# Altium schematic symbol library SYM-IC.SchLib: 136 symbols (part 3 of 7)
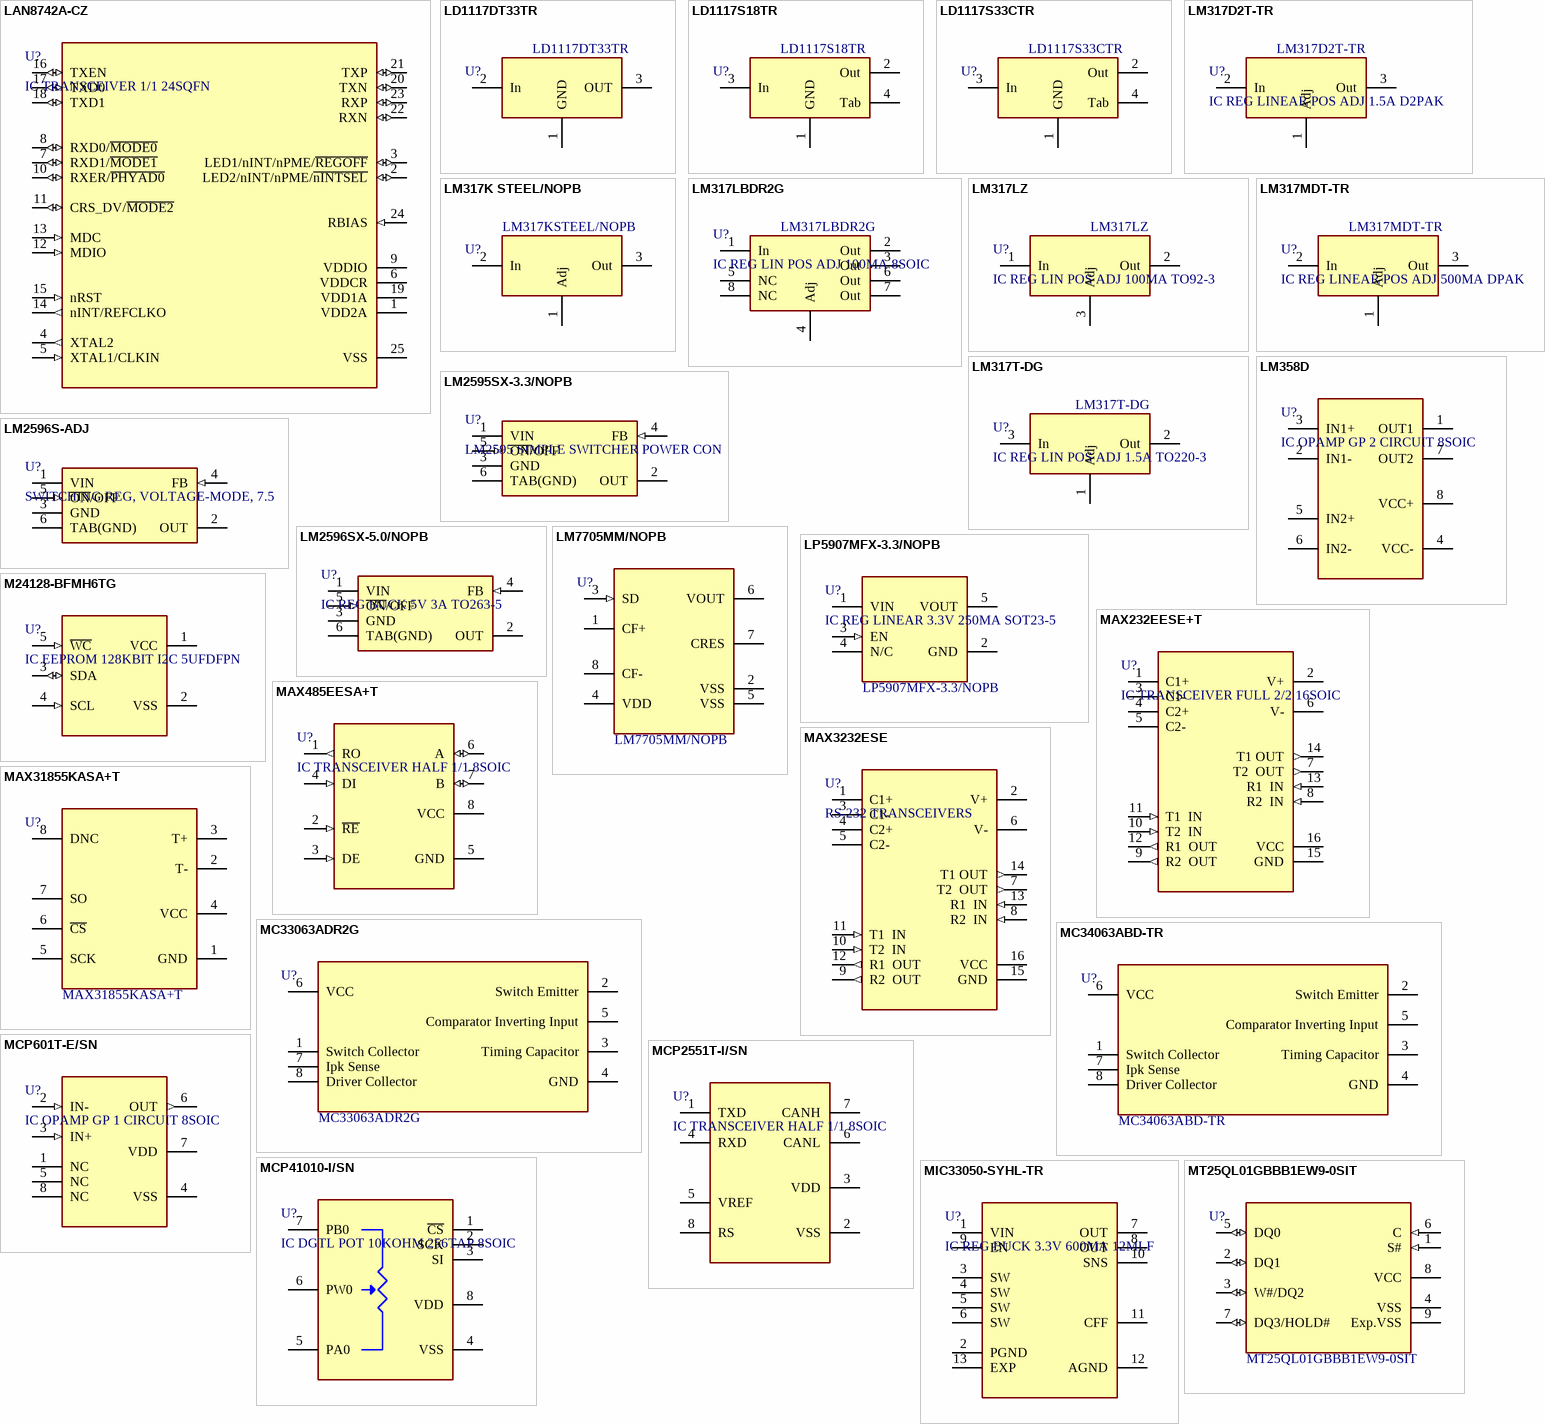
[diagram p19: symbols LAN8742A-CZ to MT25QL01GBBB1EW9-0SIT]

## LM317LBDR2G
designator U?, comment IC REG LIN POS ADJ 100MA 8SOIC  Manufacturer Part Number: LM317LBDR2G
Linear Voltage Regulator IC Positive Adjustable 1 Output 1.2 V ~ 37 V 100mA 8-SOIC; Manufacturer: ON Semiconductor; Number of Outputs: 1; Output Voltage: 37V; Max Input Voltage: 40V; Min Input Voltage: 1.3V; Min Output Voltage: 1.2V; Output Voltage Accuracy: 4%; Power Supply Rejection Ratio (PSRR): 80dB; Quiescent Current: 10mA; Supplier 1: Digi-Key; RoHS: Yes; Category: Voltage Regulators - Linear; Mount: Surface Mount; Case/Package: SOIC; Number of Pins: 8; Contact Plating: Tin,Matte; Min Operating Temperature: -40°C; Max Operating Temperature: 125°C; Packaging: Tape and Reel; Output Current: 100mA; Package Quantity: 2500; Max Output Current: 100mA; Polarity: Positive; Number of Regulators: 1; Reference Voltage: 1.3V; Max Output Voltage: 37V; Accuracy: 4%; Output Type: Adjustable; Series: -; Output Configuration: Positive; Length: 5mm; Width: 4mm; Height: 1.5mm; Radiation Hardening: No; Reach SVHC Compliant: Yes; Lead Free: Lead Free; Halogen Free: Halogen Free; RoHS Compliant: Yes; ComponentLink1URL: https://datasheet.ciiva.com/16982/0900766b80dbcdd9-16982166.pdf?src-supplier=Allied+Electronics; ComponentLink1Description: https://datasheet.ciiva.com/16982/0900766b80dbcdd9-16982166.pdf?src-supplier=Allied+Electronics; ComponentLink2URL: https://datasheet.ciiva.com/3223/lm317l-d-3223679.pdf?src-supplier=Avnet; ComponentLink2Description: https://datasheet.ciiva.com/3223/lm317l-d-3223679.pdf?src-supplier=Avnet; ComponentLink3URL: https://datasheet.ciiva.com/16213/lm317l-d-16213927.pdf?src-supplier=Future+Electronics; ComponentLink3Description: https://datasheet.ciiva.com/16213/lm317l-d-16213927.pdf?src-supplier=Future+Electronics; ComponentLink4URL: https://datasheet.ciiva.com/3225/lm317l-d-3225357.pdf?src-supplier=Avnet; ComponentLink4Description: https://datasheet.ciiva.com/3225/lm317l-d-3225357.pdf?src-supplier=Avnet; ComponentLink5URL: https://datasheet.ciiva.com/2059/lm317l-d-2059945.pdf?src-supplier=Digi-Key; ComponentLink5Description: https://datasheet.ciiva.com/2059/lm317l-d-2059945.pdf?src-supplier=Digi-Key; ComponentLink6URL: https://datasheet.ciiva.com/2059/lm317l-d-2059946.pdf?src-supplier=Digi-Key; ComponentLink6Description: https://datasheet.ciiva.com/2059/lm317l-d-2059946.pdf?src-supplier=Digi-Key; ComponentLink7URL: https://datasheet.ciiva.com/2059/lm317l-d-2059944.pdf?src-supplier=Digi-Key; ComponentLink7Description: https://datasheet.ciiva.com/2059/lm317l-d-2059944.pdf?src-supplier=Digi-Key; Supplier Part Number 1: LM317LBDR2GOSCT-ND
footprint SOIC127P600X175-8N (SOIC, 8-Leads, Body 4/89x3/90mm, Pitch 1/27mm, IPC Medium Density)
pins: 1 In, 2 Out, 3 Out, 4 Adj, 5 NC, 6 Out, 7 Out, 8 NC

## LM317LZ
designator U?, comment IC REG LIN POS ADJ 100MA TO92-3  Manufacturer Part Number: LM317LZ
Standard Regulator Pos 1.2V to 37V 0.05A 3-Pin TO-92 Bag / IC REG LINEAR ADJ 0.1A TO92-3; Manufacturer: STMicroelectronics; Number of Outputs: 1; Max Input Voltage: 40V; Min Input Voltage: 4.2V; Polarity: Positive; Reference Voltage: 1.3V; Power Supply Rejection Ratio (PSRR): 65dB; Output Type: Adjustable; Supplier 1: Digi-Key; RoHS: Yes; Category: Voltage Regulators - Linear; Stock 1: 12547; Pricing 1: 1=0/44000, 10=0/38100, 25=0/35560, 100=0/28430, 250=0/26404, 500=0/22340, 1000=0/17263, 2500=0/16765 (USD); Mount: Through Hole; Case/Package: TO-92; Number of Pins: 3; Weight: 0.01lb; Min Operating Temperature: 0°C; Max Operating Temperature: 125°C; Package Quantity: 2500; Output Voltage: 37V; Packaging: Bag; Output Current: 100mA; Max Output Current: 100mA; Number of Regulators: 1; Min Output Voltage: 1.2V; Max Output Voltage: 37V; Output Configuration: Positive; Series: -; Length: 0.75inch; Width: 0.25inch; Height: 0.25inch; Radiation Hardening: No; Reach SVHC Compliant: Yes; Lead Free: Lead Free; RoHS Compliant: Yes; ComponentLink1URL: https://datasheet.ciiva.com/29156/155585-da-01-en-sp-regl-lm317lz-to92-stm-29156593.pdf?src-supplier=Conrad; ComponentLink1Description: https://datasheet.ciiva.com/29156/155585-da-01-en-sp-regl-lm317lz-to92-stm-29156593.pdf?src-supplier=Conrad; ComponentLink2URL: https://datasheet.ciiva.com/1512/1837096-1512036.pdf?src-supplier=Element14; ComponentLink2Description: https://datasheet.ciiva.com/1512/1837096-1512036.pdf?src-supplier=Element14; ComponentLink3URL: https://datasheet.ciiva.com/2043/cd00000469-2043611.pdf?src-supplier=Digi-Key; ComponentLink3Description: https://datasheet.ciiva.com/2043/cd00000469-2043611.pdf?src-supplier=Digi-Key; ComponentLink4URL: https://datasheet.ciiva.com/4884/cd00000469-4884669.pdf?src-supplier=Mouser; ComponentLink4Description: https://datasheet.ciiva.com/4884/cd00000469-4884669.pdf?src-supplier=Mouser; ComponentLink5URL: https://datasheet.ciiva.com/16296/cd00000469-16296878.pdf?src-supplier=Future+Electronics; ComponentLink5Description: https://datasheet.ciiva.com/16296/cd00000469-16296878.pdf?src-supplier=Future+Electronics; Supplier Part Number 1: 497-1573-5-ND
footprint TO-92W
footprint TO-92A
footprint TO-92B
pins: 1 In, 2 Out, 3 Adj

## LM317MDT-TR
designator U?, comment IC REG LINEAR POS ADJ 500MA DPAK  Manufacturer Part Number: LM317MDT-TR
Reg Standard Lin Adj Pos 1.2V to 37V 0.2A 3-Pin (2+Tab) DPAK T/R; Manufacturer: STMicroelectronics; Number of Outputs: 1; Max Input Voltage: 40V; Min Input Voltage: 4.2V; Max Output Current: 200mA; Polarity: Positive; Reference Voltage: 1.3V; Power Supply Rejection Ratio (PSRR): 65dB; Output Type: Adjustable; Supplier 1: Digi-Key; RoHS: Yes; Category: Voltage Regulators - Linear; Stock 1: 29417; Pricing 1: 1=0/93000, 10=0/83200, 25=0/79000, 100=0/64900, 250=0/60668, 500=0/53612, 1000=0/46585 (USD); Mount: Surface Mount; Case/Package: TO-252; Number of Pins: 3; Weight: 0.063493oz; Contact Plating: Tin,Matte; Min Operating Temperature: 0°C; Max Operating Temperature: 125°C; Packaging: Tape and Reel; Output Voltage: 37V; Output Current: 500mA; Package Quantity: 1; Number of Regulators: 1; Min Output Voltage: 1.2V; Max Output Voltage: 37V; Series: LM317; Output Configuration: Positive; Length: 6.6mm; Width: 6.2mm; Height: 2.4mm; Radiation Hardening: No; Reach SVHC Compliant: Yes; Lead Free: Lead Free; ComponentLink1URL: https://datasheet.ciiva.com/41440/001185006-da-01-en-ic-reg-ldo-adj-lm317mdt-tr-to-252-3-stm-41440182.pdf?src-supplier=Conrad; ComponentLink1Description: https://datasheet.ciiva.com/41440/001185006-da-01-en-ic-reg-ldo-adj-lm317mdt-tr-to-252-3-stm-41440182.pdf?src-supplier=Conrad; Supplier Part Number 1: 497-1574-1-ND
footprint DPAK228P1010X238-3N (D-PAK, 3-Pads, Body 6/20x6/72mm (max), IPC Medium Density)
pins: 1 Adj, 2 In, 3 Out

## LM317T-DG
designator U?, comment IC REG LIN POS ADJ 1.5A TO220-3  Manufacturer Part Number: LM317T-DG
Linear Voltage Regulator IC Positive Adjustable 1 Output 1.2 V ~ 37 V 1.5A TO-220-3; Manufacturer: STMicroelectronics; Max Input Voltage: 40V; Max Output Current: 400mA; Number of Outputs: 1; Output Voltage: 37V; Min Input Voltage: 4.2V; Reference Voltage: 1.3V; Min Output Voltage: 1.2V; Power Supply Rejection Ratio (PSRR): 80dB; Supplier 1: Digi-Key; RoHS: Yes; Category: Voltage Regulators - Linear; Stock 1: 8838; Pricing 1: 1=0/95000, 10=0/85300, 25=0/81000, 100=0/66530, 250=0/62192, 500=0/54962, 1000=0/47758 (USD); Mount: Through Hole; Case/Package: TO-220; Number of Pins: 3; Min Operating Temperature: 0°C; Max Operating Temperature: 125°C; Packaging: Rail/Tube; Package Quantity: 50; Output Current: 1.5A; Number of Regulators: 1; Polarity: Positive; Output Type: Adjustable; Series: LM317; Length: 10.4mm; Width: 14.9mm; Height: 4.6mm; Radiation Hardening: No; Lead Free: Lead Free; RoHS Compliant: Yes; ComponentLink1URL: https://datasheet.ciiva.com/2044/cd00000455-2044264.pdf?src-supplier=Digi-Key; ComponentLink1Description: https://datasheet.ciiva.com/2044/cd00000455-2044264.pdf?src-supplier=Digi-Key; ComponentLink2URL: https://datasheet.ciiva.com/4882/cd00000455-4882127.pdf?src-supplier=Mouser; ComponentLink2Description: https://datasheet.ciiva.com/4882/cd00000455-4882127.pdf?src-supplier=Mouser; ComponentLink3URL: https://datasheet.ciiva.com/16396/cd00000455-16396012.pdf?src-supplier=Future+Electronics; ComponentLink3Description: https://datasheet.ciiva.com/16396/cd00000455-16396012.pdf?src-supplier=Future+Electronics; Supplier Part Number 1: 497-12403-ND
footprint TO220
pins: 1 Adj, 2 Out, 3 In

## LM358D
designator U?, comment IC OPAMP GP 2 CIRCUIT 8SOIC
OP Amp Dual GP ±16V/32V 8-Pin SOIC OP Amp Dual GP ±16V/32V 8-Pin SOIC; Manufacturer: STMicroelectronics; Manufacturer Part Number: LM358D; Bandwidth: 1.1MHz; Max Supply Voltage: 30V; Min Supply Voltage: 3V; Slew Rate: 0.6V/µs; Common Mode Rejection Ratio: 70dB; Min Dual Supply Voltage: 1.5V; Max Dual Supply Voltage: 15V; Voltage Gain: 100dB; Dual Supply Voltage: 9V; Nominal Supply Current: 1.2mA; Number of Channels: 2; Output Current: 40mA; Max Input Voltage: 28.5V; Min Input Voltage: 0V; Input Bias Current: 150nA; Input Offset Voltage (Vos): 7mV; Operating Supply Current: 700uA; Output Current per Channel: 60mA; Amplifier Type: GENERAL PURPOSE; Supplier 1: Digi-Key; RoHS: Yes; Category: Amplifiers - Op Amps, Buffer, Instrumentation; Stock 1: 30; Pricing 1: 1=3/40000, 10=3/05300, 25=2/88600, 100=2/50110, 250=2/37280, 500=2/12912, 1000=2/11750 (USD); Mount: Surface Mount; Case/Package: SOIC; Number of Pins: 8; Weight: 0.01lb; Min Operating Temperature: 0°C; Max Operating Temperature: 70°C; Unity Gain Bandwidth Product: 1.1MHz; Packaging: Rail/Tube; Package Quantity: 100; Operating Supply Voltage: 15V; Number of Circuits: 2; Gain Bandwidth Product: 1.1MHz; Number of Elements: 2; Number of Amplifiers: 2; Series: -; Supply Current: 1.2mA; Technology: BIPOLAR; Input Offset Voltage-Max: 7mV; Slew Rate-Nom: 0.6V/µs; Length: 4.9mm; Width: 3.9mm; Height: 1.25mm; Radiation Hardening: No; REACH SVHC: No SVHC; Lead Free: Lead Free; RoHS Compliant: Yes; ComponentLink1URL: https://datasheet.ciiva.com/14151/jhlm258-e-14151238.pdf?src-supplier=Distrelec; ComponentLink1Description: https://datasheet.ciiva.com/14151/jhlm258-e-14151238.pdf?src-supplier=Distrelec; ComponentLink2URL: https://datasheet.ciiva.com/15129/getdatasheetpartid-50655-15129974.pdf?src-supplier=Verical; ComponentLink2Description: https://datasheet.ciiva.com/15129/getdatasheetpartid-50655-15129974.pdf?src-supplier=Verical; ComponentLink3URL: https://datasheet.ciiva.com/29306/155598-da-01-en-op-verst-lm358d-stm-29306828.pdf?src-supplier=Conrad; ComponentLink3Description: https://datasheet.ciiva.com/29306/155598-da-01-en-op-verst-lm358d-stm-29306828.pdf?src-supplier=Conrad; ComponentLink4URL: https://datasheet.ciiva.com/16456/cd00000464-16456953.pdf?src-supplier=Future+Electronics; ComponentLink4Description: https://datasheet.ciiva.com/16456/cd00000464-16456953.pdf?src-supplier=Future+Electronics; ComponentLink5URL: https://datasheet.ciiva.com/14544/70013561-14544765.pdf?src-supplier=Allied+Electronics; ComponentLink5Description: https://datasheet.ciiva.com/14544/70013561-14544765.pdf?src-supplier=Allied+Electronics; ComponentLink6URL: https://datasheet.ciiva.com/1811/cd00000464-1811312.pdf?src-supplier=Digi-Key; ComponentLink6Description: https://datasheet.ciiva.com/1811/cd00000464-1811312.pdf?src-supplier=Digi-Key; Supplier Part Number 1: 497-18378-ND
footprint SOIC127P600X175-8N (SOIC, 8-Leads, Body 4/89x3/90mm, Pitch 1/27mm, IPC Medium Density)
pins: 1 OUT1, 2 IN1-, 3 IN1+, 4 VCC- (power), 5 IN2+, 6 IN2-, 7 OUT2, 8 VCC+ (power)

## LM2595SX-3.3/NOPB
designator U?, comment LM2595 SIMPLE SWITCHER POWER CON
SIMPLE SWITCHE Power Converter 150 KHz 1A Step-Down Voltage egulator 5-DDPAK/TO-263; Manufacturer: Texas Instruments; Manufacturer Part Number: LM2595SX-3.3/NOPB; Number of Outputs: 1; Output Voltage: 3.3V; Min Input Voltage: 4.5V; Max Input Voltage: 40V; Efficiency: 78%; Switching Frequency: 173kHz; Synchronous Rectifier: No; Quiescent Current: 5mA; Output Type: Fixed; Supplier 1: Digi-Key; Category: Voltage Regulators - Switching; Stock 1: 7486; Pricing 1: 1=4/94000, 10=4/44000, 25=4/19760, 100=3/63790, 250=3/45136 (USD); Mount: Surface Mount; Case/Package: TO-263; Contact Plating: Tin; Min Operating Temperature: -40°C; Max Operating Temperature: 125°C; Packaging: Tape and Reel; Max Output Current: 1A; Output Current: 1A; Package Quantity: 500; Min Supply Voltage: 4.5V; Operating Supply Voltage: 40V; Series: SIMPLE SWITCHER®; Radiation Hardening: No; Lead Free: Contains Lead; RoHS Compliant: Yes; ComponentLink1URL: https://datasheet.ciiva.com/3220/lm2595-3220752.pdf?src-supplier=Arrow+Electronics; ComponentLink1Description: https://datasheet.ciiva.com/3220/lm2595-3220752.pdf?src-supplier=Arrow+Electronics; ComponentLink2URL: https://datasheet.ciiva.com/15113/getdatasheetpartid-139818-15113072.pdf?src-supplier=Verical; ComponentLink2Description: https://datasheet.ciiva.com/15113/getdatasheetpartid-139818-15113072.pdf?src-supplier=Verical; ComponentLink3URL: https://datasheet.ciiva.com/41457/001013804-da-01-en-ic-reg-bu-lm2595sx-3-3-nopb-to-263-5-tid-41457747.pdf?src-supplier=Conrad; ComponentLink3Description: https://datasheet.ciiva.com/41457/001013804-da-01-en-ic-reg-bu-lm2595sx-3-3-nopb-to-263-5-tid-41457747.pdf?src-supplier=Conrad; ComponentLink4URL: https://datasheet.ciiva.com/6607/lm2595-6607161.pdf?src-supplier=Digi-Key; ComponentLink4Description: https://datasheet.ciiva.com/6607/lm2595-6607161.pdf?src-supplier=Digi-Key; ComponentLink5URL: https://datasheet.ciiva.com/6607/lm2595-6607162.pdf?src-supplier=Digi-Key; ComponentLink5Description: https://datasheet.ciiva.com/6607/lm2595-6607162.pdf?src-supplier=Digi-Key; ComponentLink6URL: https://datasheet.ciiva.com/6607/lm2595-6607160.pdf?src-supplier=Digi-Key; ComponentLink6Description: https://datasheet.ciiva.com/6607/lm2595-6607160.pdf?src-supplier=Digi-Key; ComponentLink7URL: https://octopart.com/opatz8j6/c1?t=HJyOl37OqrlkQa9PdbZ_ErS7AmV2SDCtoh3f68vBZDS37FDjIxAKYd1G9BOJlagdzj_pqJvBH7k09YDErdSOKrjHFVTcpSOr3iA0Fkswp72Geta4kY1JNnQNtp1d_wLSSPX7l7jOGSu8Gmm1L66P6NXuEyDaNaJ_tzoxgbapTAzf8H0IB7V-FUBFscg3_oM-A6Wo3S9i61ANO8U11VZI50S9kH5efEHz21V7YfWlVx7zE9acSWhoGPM&src-supplier=Texas+Instruments; ComponentLink7Description: https://octopart.com/opatz8j6/c1?t=HJyOl37OqrlkQa9PdbZ_ErS7AmV2SDCtoh3f68vBZDS37FDjIxAKYd1G9BOJlagdzj_pqJvBH7k09YDErdSOKrjHFVTcpSOr3iA0Fkswp72Geta4kY1JNnQNtp1d_wLSSPX7l7jOGSu8Gmm1L66P6NXuEyDaNaJ_tzoxgbapTAzf8H0IB7V-FUBFscg3_oM-A6Wo3S9i61ANO8U11VZI50S9kH5efEHz21V7YfWlVx7zE9acSWhoGPM&src-supplier=Texas+Instruments; ComponentLink8URL: https://datasheet.octopart.com/LM2595SX-3.3/NOPB-Texas-Instruments-datasheet-10671554.pdf?src-supplier=Texas+Instruments; ComponentLink8Description: https://datasheet.octopart.com/LM2595SX-3.3/NOPB-Texas-Instruments-datasheet-10671554.pdf?src-supplier=Texas+Instruments; ComponentLink9URL: https://datasheet.octopart.com/LM2595SX-3.3-NOPB-Texas-Instruments-datasheet-14775464.pdf?src-supplier=Texas+Instruments; ComponentLink9Description: https://datasheet.octopart.com/LM2595SX-3.3-NOPB-Texas-Instruments-datasheet-14775464.pdf?src-supplier=Texas+Instruments; ComponentLink10URL: https://datasheet.octopart.com/LM2595SX-3.3-NOPB-Texas-Instruments-datasheet-34438174.pdf?src-supplier=Texas+Instruments; ComponentLink10Description: https://datasheet.octopart.com/LM2595SX-3.3-NOPB-Texas-Instruments-datasheet-34438174.pdf?src-supplier=Texas+Instruments; ComponentLink11URL: https://sigma.octopart.com/49250911/technical_drawing/Texas-Instruments-LM2595SX-3.3-NOPB.pdf?src-supplier=Texas+Instruments; ComponentLink11Description: https://sigma.octopart.com/49250911/technical_drawing/Texas-Instruments-LM2595SX-3.3-NOPB.pdf?src-supplier=Texas+Instruments; ComponentLink12URL: https://datasheet.octopart.com/LM2595SX-3.3-NOPB-Texas-Instruments-datasheet-16079560.pdf?src-supplier=Element14; ComponentLink12Description: https://datasheet.octopart.com/LM2595SX-3.3-NOPB-Texas-Instruments-datasheet-16079560.pdf?src-supplier=Element14; ComponentLink13URL: https://datasheet.octopart.com/LM2595SX-3.3/NOPB-National-Semiconductor-datasheet-3153.pdf?src-supplier=Arrow+Electronics; ComponentLink13Description: https://datasheet.octopart.com/LM2595SX-3.3/NOPB-National-Semiconductor-datasheet-3153.pdf?src-supplier=Arrow+Electronics; Supplier Part Number 1: LM2595SX-3.3/NOPBCT-ND
footprint DPAK170P1438X470-6N (D2-PAK, 6-Pads, Body 7/45x8/51mm (max), IPC Medium Density)
pins: 1 VIN (power), 2 OUT (power), 3 GND (power), 4 FB (in), 5 ~{ON}/OFF (in), 6 TAB(GND) (power)

## LM2596S-ADJ
designator U?, comment SWITCHING REG, VOLTAGE-MODE, 7.5
SIMPLE SWITCHER Power Converter 15 kHz 3A Step-Down Voltage Regulator; Manufacturer: TI National Semiconductor; Manufacturer Part Number: LM2596S-ADJ; Frequency: 150kHz; Number of Outputs: 1; Output Voltage: 37V; Supplier 1: Digi-Key; RoHS: No; Category: Voltage Regulators - Switching; Case/Package: TO-263; Number of Pins: 5; Output Current: 3A; Packaging: Rail/Tube; Switching Frequency: 150kHz; RoHS Compliant: No; Supplier Part Number 1: LM2596S-ADJ-ND
footprint DPAK170P1438X470-6N (D2-PAK, 6-Pads, Body 7/45x8/51mm (max), IPC Medium Density)
pins: 1 VIN (power), 2 OUT (power), 3 GND (power), 4 FB (in), 5 ~{ON}/OFF (in), 6 TAB(GND) (power)

## LM2596SX-5.0/NOPB
designator U?, comment IC REG BUCK 5V 3A TO263-5
Manufacturer: TI National Semiconductor; Manufacturer Part Number: LM2596SX-5.0/NOPB; Min Input Voltage: 4.5V; Max Input Voltage: 40V; Number of Outputs: 1; Switching Frequency: 173kHz; Efficiency: 80%; Synchronous Rectifier: No; Quiescent Current: 5mA; Output Type: Fixed; Output Configuration: Positive; Supplier 1: Digi-Key; RoHS: Yes; Category: Voltage Regulators - Switching; Pricing 1: 1=6/73000, 10=6/04500, 25=5/71440, 100=4/95250, 250=4/69856 (USD); Mount: Surface Mount; Case/Package: TO-263-5; Number of Pins: 5; Weight: 0.01lb; Contact Plating: Tin; Min Operating Temperature: -40°C; Max Operating Temperature: 125°C; Output Voltage: 5V; Output Current: 3A; Packaging: Tape and Reel; Max Output Current: 3A; Package Quantity: 500; Nominal Output Voltage: 5V; Min Output Voltage: 5V; Operating Supply Voltage: 40V; Length: 1inch; Width: 0.75inch; Height: 0.5inch; Radiation Hardening: No; REACH SVHC: No SVHC; Lead Free: Contains Lead; Supplier Part Number 1: LM2596SX-5.0/NOPBCT-ND
footprint DPAK170P1438X470-6N (D2-PAK, 6-Pads, Body 7/45x8/51mm (max), IPC Medium Density)
pins: 1 VIN (power), 2 OUT (power), 3 GND (power), 4 FB (in), 5 ~{ON}/OFF (in), 6 TAB(GND) (power)

## LM7705MM/NOPB
designator U?, comment Manufacturer Part Number: LM7705MM/NOPB  (hidden comment: IC REG CHARGE PUMP -0.23V 8VSSOP)
Low Noise Negative Bias Generator 8-VSSOP -40 to 125; Manufacturer: TI National Semiconductor; Max Input Voltage: 5.25V; Output Voltage: -230mV; Output Current: 20mA; Min Input Voltage: 3V; Number of Outputs: 1; Switching Frequency: 91kHz; Operating Supply Current: 5mA; Synchronous Rectifier: No; Nominal Output Voltage: -232mV; Logic Function: Inverting; Quiescent Current: 78uA; Output Type: Fixed; Supplier 1: Digi-Key; RoHS: Yes; Category: Voltage Regulators - Switching; Stock 1: 9018; Pricing 1: 1=1/06000, 10=0/94400, 25=0/89640, 100=0/73630, 250=0/68824, 500=0/60822 (USD); Mount: Surface Mount; Case/Package: MSOP; Number of Pins: 8; Weight: 0.004938oz; Contact Plating: Tin; Min Operating Temperature: -40°C; Max Operating Temperature: 125°C; Packaging: Tape and Reel; Min Supply Voltage: 3V; Max Supply Voltage: 5.25V; Radiation Hardening: No; REACH SVHC: No SVHC; Lead Free: Lead Free; RoHS Compliant: Yes; ComponentLink1URL: https://datasheet.ciiva.com/6594/lm7705-6594456.pdf?src-supplier=Digi-Key; ComponentLink1Description: https://datasheet.ciiva.com/6594/lm7705-6594456.pdf?src-supplier=Digi-Key; ComponentLink2URL: https://datasheet.ciiva.com/6594/lm7705-6594457.pdf?src-supplier=Digi-Key; ComponentLink2Description: https://datasheet.ciiva.com/6594/lm7705-6594457.pdf?src-supplier=Digi-Key; ComponentLink3URL: https://datasheet.ciiva.com/6594/lm7705-6594455.pdf?src-supplier=Digi-Key; ComponentLink3Description: https://datasheet.ciiva.com/6594/lm7705-6594455.pdf?src-supplier=Digi-Key; Supplier Part Number 1: LM7705MM/NOPBCT-ND
footprint TSOP65P490X110-8N (TSOP, 8-Leads, Body 3/00x3/00mm, Pitch 0/65mm, IPC Medium Density)
pins: 1 CF+, 2 VSS (power), 3 SD (in), 4 VDD (power), 5 VSS (power), 6 VOUT (power), 7 CRES, 8 CF-

## LP5907MFX-3.3/NOPB
designator U?, comment IC REG LINEAR 3.3V 250MA SOT23-5  Manufacturer Part Number: LP5907MFX-3.3/NOPB
IC REG LDO 3.3V 0.25A SOT23-5; Manufacturer: Texas Instruments; Number of Outputs: 1; Min Input Voltage: 2.2V; Max Input Voltage: 5.5V; Dropout Voltage: 250mV; Polarity: Positive; Quiescent Current: 25uA; Accuracy: 2%; Power Supply Rejection Ratio (PSRR): 60dB; Output Type: Fixed; Max Supply Current: 425uA; Supplier 1: Digi-Key; RoHS: Yes; Stock 1: 6087; Pricing 1: 1=0/69000, 10=0/59200, 25=0/55280, 100=0/44220, 250=0/41064, 500=0/34746, 1000=0/26850 (USD); Mount: Surface Mount; Case/Package: SOT-23-5; Number of Pins: 5; Contact Plating: Tin; Min Operating Temperature: -40°C; Max Operating Temperature: 125°C; Output Voltage: 3.3V; Packaging: Tape and Reel; Max Output Current: 250mA; Output Current: 250mA; Package Quantity: 3000; Number of Regulators: 1; Nominal Output Voltage: 3.3V; Output Voltage Accuracy: 2%; Series: -; Output Configuration: Positive; Radiation Hardening: No; Reach SVHC Compliant: Yes; Lead Free: Lead Free; RoHS Compliant: Yes; ComponentLink1URL: https://datasheet.ciiva.com/48475/lp5907-48475084.pdf?src-supplier=Avnet; ComponentLink1Description: https://datasheet.ciiva.com/48475/lp5907-48475084.pdf?src-supplier=Avnet; ComponentLink2URL: https://datasheet.ciiva.com/15083/lp5907-15083592.pdf?src-supplier=Digi-Key; ComponentLink2Description: https://datasheet.ciiva.com/15083/lp5907-15083592.pdf?src-supplier=Digi-Key; Supplier Part Number 1: 296-38557-1-ND
footprint SOT95P280X145-5N (SOT23, 5-Leads, Body 2/90x2/80mm, Pitch 0/95mm, IPC Medium Density)
pins: 1 VIN (power), 2 GND (power), 3 EN (in), 4 N/C, 5 VOUT (power)

## M24128-BFMH6TG
designator U?, comment IC EEPROM 128KBIT I2C 5UFDFPN
EEPROM Serial I2C 128Kbit 16K X 8 1.7V to 5.5V 5-Pin UFDFPN T/R; Manufacturer: STMicroelectronics; Manufacturer Part Number: M24128-BFMH6TG; Memory Type: Non-Volatile,EEPROM; Memory Size: 128Kb; Frequency: 1MHz; Access Time: 450ns; Supplier 1: Digi-Key; RoHS: Yes; Category: Memory; Stock 1: 77315; Pricing 1: 1=0/32000, 10=0/31700, 25=0/29440, 50=0/29280, 100=0/26000, 250=0/25672, 500=0/25284, 1000=0/24608 (USD); Mount: Surface Mount; Number of Pins: 5; Min Operating Temperature: -40°C; Max Operating Temperature: 85°C; Packaging: Cut Tape; RoHS Compliant: Yes; ComponentLink1URL: http://www.st.com/content/ccc/resource/technical/document/errata_sheet/group0/af/5d/31/f9/b2/40/4a/99/DM00311841/files/DM00311841.pdf/jcr:content/translations/en.DM00311841.pdf?src-supplier=Digi-Key; ComponentLink1Description: http://www.st.com/content/ccc/resource/technical/document/errata_sheet/group0/af/5d/31/f9/b2/40/4a/99/DM00311841/files/DM00311841.pdf/jcr:content/translations/en.DM00311841.pdf?src-supplier=Digi-Key; ComponentLink2URL: http://www.st.com/content/ccc/resource/technical/document/datasheet/59/05/c9/5b/7b/41/48/b6/CD00259167.pdf/files/CD00259167.pdf/jcr:content/translations/en.CD00259167.pdf?src-supplier=Digi-Key; ComponentLink2Description: http://www.st.com/content/ccc/resource/technical/document/datasheet/59/05/c9/5b/7b/41/48/b6/CD00259167.pdf/files/CD00259167.pdf/jcr:content/translations/en.CD00259167.pdf?src-supplier=Digi-Key; Supplier Part Number 1: 497-17565-1-ND
footprint DFN95P170X60-5N (DFN, 5-Leads, Body 1/40x1/70mm, Pitch 0/95mm, IPC Medium Density)
pins: 1 VCC (power), 2 VSS (power), 3 SDA (io), 4 SCL (in), 5 ~{WC} (in)

## MAX232EESE+T
designator U?, comment IC TRANSCEIVER FULL 2/2 16SOIC
2/2 Transceiver Full RS232 16-SOIC; Manufacturer: Maxim; Manufacturer Part Number: MAX232EESE+T; Supplier 1: Digi-Key; RoHS: Yes; Category: Buffers, Drivers and Transceivers; RoHS Compliant: Yes; ComponentLink1URL: https://datasheets.maximintegrated.com/en/ds/MAX202E-MAX241E.pdf?src-supplier=Digi-Key; ComponentLink1Description: https://datasheets.maximintegrated.com/en/ds/MAX202E-MAX241E.pdf?src-supplier=Digi-Key; Supplier Part Number 1: MAX232EESE+TCT-ND
footprint SOIC127P600X175-16N (SOIC, 16-Leads, Body 9/90x3/90mm, Pitch 1/27mm, IPC Medium Density)
pins: 1 C1+, 2 V+ (power), 3 C1-, 4 C2+, 5 C2-, 6 V- (power), 7 T2  OUT (out), 8 R2  IN (in), 9 R2  OUT (out), 10 T2  IN (in), 11 T1  IN (in), 12 R1  OUT (out), 13 R1  IN (in), 14 T1 OUT (out), 15 GND (power), 16 VCC (power)

## MAX485EESA+T
designator U?, comment IC TRANSCEIVER HALF 1/1 8SOIC
IC TXRX RS485/RS422 8-SOIC; Manufacturer: Maxim; Manufacturer Part Number: MAX485EESA+T; Nominal Supply Current: 500uA; Max Power Dissipation: 471mW; Output Current: 250mA; Output Voltage: 12.5V; Data Rate: 2.5Mbps; Number of Receivers: 1; Operating Supply Voltage: 5V; Interface: RS-422,RS-485; Min Supply Voltage: 4.75V; Max Supply Voltage: 5.25V; Simplex/Duplex: Half Duplex; Receiver Hysteresis: 70mV; Supplier 1: Digi-Key; RoHS: Yes; Category: Interface ICs; Mount: Surface Mount; Case/Package: SOIC; Number of Pins: 8; Contact Plating: Tin,Matte; Min Operating Temperature: 0°C; Max Operating Temperature: 85°C; Packaging: Tape and Reel; Package Quantity: 2500; Number of Transmitters: 1; Logic Function: Transceiver; Number of Drivers: 1; Number of Transceivers: 1; Supply Current: 500uA; Series: -; Radiation Hardening: No; REACH SVHC: Unknown; Lead Free: Lead Free; RoHS Compliant: Yes; ComponentLink1URL: https://datasheet.ciiva.com/12261/max1487e-max491e-12261701.pdf?src-supplier=Mouser; ComponentLink1Description: https://datasheet.ciiva.com/12261/max1487e-max491e-12261701.pdf?src-supplier=Mouser; ComponentLink2URL: https://datasheet.ciiva.com/14430/max1487e-max491e-14430325.pdf?src-supplier=Avnet; ComponentLink2Description: https://datasheet.ciiva.com/14430/max1487e-max491e-14430325.pdf?src-supplier=Avnet; ComponentLink3URL: https://datasheet.ciiva.com/29718/max1487e-max491e-29718750.pdf?src-supplier=Digi-Key; ComponentLink3Description: https://datasheet.ciiva.com/29718/max1487e-max491e-29718750.pdf?src-supplier=Digi-Key; ComponentLink4URL: https://datasheet.ciiva.com/29718/max1487e-max491e-29718751.pdf?src-supplier=Digi-Key; ComponentLink4Description: https://datasheet.ciiva.com/29718/max1487e-max491e-29718751.pdf?src-supplier=Digi-Key; ComponentLink5URL: https://datasheet.ciiva.com/29718/max1487e-max491e-29718749.pdf?src-supplier=Digi-Key; ComponentLink5Description: https://datasheet.ciiva.com/29718/max1487e-max491e-29718749.pdf?src-supplier=Digi-Key; Supplier Part Number 1: MAX485EESA+TCT-ND
footprint SOIC127P600X175-8N (SOIC, 8-Leads, Body 4/89x3/90mm, Pitch 1/27mm, IPC Medium Density)
pins: 1 RO (out), 2 ~{RE} (in), 3 DE (in), 4 DI (in), 5 GND (power), 6 A (io), 7 B (io), 8 VCC (power)

## MAX3232ESE
designator U?, comment RS-232 TRANSCEIVERS
Mfr: Analog Devices Inc./Maxim Integrated; Manufacturer Product Number: MAX3232ESE; ComponentLink1Description: Supplier; ComponentLink1URL: https://www.digikey.com/en/products/detail/analog-devices-inc-maxim-integrated/MAX3232ESE/12094847; Package: Bulk; Digi-Key Part Number: 2156-MAX3232ESE-ND
footprint SOIC127P600X175-16N (SOIC, 16-Leads, Body 9/90x3/90mm, Pitch 1/27mm, IPC Medium Density)
pins: 1 C1+, 2 V+ (power), 3 C1-, 4 C2+, 5 C2-, 6 V- (power), 7 T2  OUT (out), 8 R2  IN (in), 9 R2  OUT (out), 10 T2  IN (in), 11 T1  IN (in), 12 R1  OUT (out), 13 R1  IN (in), 14 T1 OUT (out), 15 GND (power), 16 VCC (power)

## MAX31855KASA+T
designator U?, comment Manufacturer Part Number: MAX31855KASA+T  (hidden comment: IC CONV THERMOCOUPLE-DGTL SOIC)
MAX31855 Series 3.6V 900 uA 470.6 mW Thermocouple-to-Digital Converter - SOIC-8; Manufacturer: Maxim; Interface: SPI; Operating Supply Current: 900uA; Resolution: 14b; Min Supply Voltage: 3V; Supplier 1: Digi-Key; RoHS: Yes; Category: Power Management ICs; Stock 1: 29052; Pricing 1: 1=8/31000, 10=7/50400, 25=7/15440, 100=6/21220, 250=5/93300, 500=5/40950, 1000=5/23500 (USD); Case/Package: SOIC; Pins: 8; Contact Plating: Tin,Matte; Min Operating Temperature: -40°C; Max Operating Temperature: 125°C; Package Quantity: 2500; Packaging: Tape and Reel; Max Supply Voltage: 3.6V; Output Type: Digital; Series: -; Radiation Hardening: No; RoHS Compliant: Yes; ComponentLink1URL: https://datasheet.ciiva.com/2003/max31855-2003462.pdf?src-supplier=Digi-Key; ComponentLink1Description: https://datasheet.ciiva.com/2003/max31855-2003462.pdf?src-supplier=Digi-Key; ComponentLink2URL: https://datasheet.ciiva.com/2003/max31855-2003463.pdf?src-supplier=Digi-Key; ComponentLink2Description: https://datasheet.ciiva.com/2003/max31855-2003463.pdf?src-supplier=Digi-Key; ComponentLink3URL: https://datasheet.ciiva.com/2003/max31855-2003464.pdf?src-supplier=Digi-Key; ComponentLink3Description: https://datasheet.ciiva.com/2003/max31855-2003464.pdf?src-supplier=Digi-Key; Supplier Part Number 1: MAX31855KASA+TCT-ND
footprint SOIC127P600X175-8N (SOIC, 8-Leads, Body 4/89x3/90mm, Pitch 1/27mm, IPC Medium Density)
pins: 1 GND, 2 T-, 3 T+, 4 VCC, 5 SCK, 6 ~{CS}, 7 SO, 8 DNC

## MC33063ADR2G
designator U?, comment Manufacturer Part Number: MC33063ADR2G  (hidden comment: IC REG BUCK BST ADJ 1.5A 8SOIC)
Buck, Boost Switching Regulator IC Positive or Negative Adjustable 1.25V 1 Output 1.5A (Switch) 8-SOIC (0.154, 3.90mm Width); Manufacturer: ON Semiconductor; Number of Outputs: 1; Output Voltage: 40V; Min Input Voltage: 3V; Switching Frequency: 100kHz; Synchronous Rectifier: No; Topology: Buck-Boost; Supplier 1: Digi-Key; RoHS: Yes; Category: Voltage Regulators - Switching; Stock 1: 22727; Pricing 1: 1=0/97000, 10=0/85600, 25=0/80360, 100=0/65600, 250=0/60928, 500=0/51856, 1000=0/41484 (USD); Mount: Surface Mount; Case/Package: SOIC; Number of Pins: 8; Contact Plating: Tin,Matte; Min Operating Temperature: -40°C; Max Operating Temperature: 85°C; Output Current: 1.5A; Max Output Current: 1.5A; Packaging: Tape and Reel; Package Quantity: 2500; Max Input Voltage: 40V; Min Output Voltage: 1.25V; Max Output Voltage: 40V; Output Type: Adjustable; Series: -; Switching Frequency-Max: 100kHz; Length: 5mm; Width: 4mm; Height: 1.5mm; Radiation Hardening: No; Reach SVHC Compliant: Yes; Lead Free: Lead Free; Halogen Free: Halogen Free; RoHS Compliant: Yes; ComponentLink1URL: https://datasheet.ciiva.com/3218/mc34063a-d-3218537.pdf?src-supplier=Avnet; ComponentLink1Description: https://datasheet.ciiva.com/3218/mc34063a-d-3218537.pdf?src-supplier=Avnet; ComponentLink2URL: https://datasheet.ciiva.com/16339/mc34063a-d-16339061.pdf?src-supplier=Future+Electronics; ComponentLink2Description: https://datasheet.ciiva.com/16339/mc34063a-d-16339061.pdf?src-supplier=Future+Electronics; ComponentLink3URL: https://datasheet.ciiva.com/26931/getdatasheetpartid-121062-26931447.pdf?src-supplier=Verical; ComponentLink3Description: https://datasheet.ciiva.com/26931/getdatasheetpartid-121062-26931447.pdf?src-supplier=Verical; ComponentLink4URL: https://datasheet.ciiva.com/3217/mc34063a-d-3217486.pdf?src-supplier=Avnet; ComponentLink4Description: https://datasheet.ciiva.com/3217/mc34063a-d-3217486.pdf?src-supplier=Avnet; ComponentLink5URL: https://datasheet.ciiva.com/2025/mc34063a-d-2025174.pdf?src-supplier=Digi-Key; ComponentLink5Description: https://datasheet.ciiva.com/2025/mc34063a-d-2025174.pdf?src-supplier=Digi-Key; ComponentLink6URL: https://datasheet.ciiva.com/2025/mc34063a-d-2025175.pdf?src-supplier=Digi-Key; ComponentLink6Description: https://datasheet.ciiva.com/2025/mc34063a-d-2025175.pdf?src-supplier=Digi-Key; ComponentLink7URL: https://datasheet.ciiva.com/2025/mc34063a-d-2025173.pdf?src-supplier=Digi-Key; ComponentLink7Description: https://datasheet.ciiva.com/2025/mc34063a-d-2025173.pdf?src-supplier=Digi-Key; Supplier Part Number 1: MC33063ADR2GOSCT-ND
footprint SOIC127P600X175-8N (SOIC, 8-Leads, Body 4/89x3/90mm, Pitch 1/27mm, IPC Medium Density)
pins: 1 Switch Collector (hiz), 2 Switch Emitter (hiz), 3 Timing Capacitor (hiz), 4 GND (power), 5 Comparator Inverting Input (hiz), 6 VCC (power), 7 Ipk Sense (hiz), 8 Driver Collector

## MC34063ABD-TR
designator U?, comment Manufacturer Part Number: MC34063ABD-TR  (hidden comment: IC REG BUCK BST ADJ 1.5A 8SO)
Buck, Boost Switching Regulator IC Positive or Negative Adjustable 1.25V 1 Output 1.5A (Switch) 8-SOIC (0.154, 3.90mm Width); Manufacturer: STMicroelectronics; Efficiency: 89%; Min Input Voltage: 3V; Number of Outputs: 1; Max Input Voltage: 40V; Switching Frequency: 100kHz; Synchronous Rectifier: No; Max Output Voltage: 38V; Power Dissipation: 625mW; Input Current: 2.5mA; Output Type: Adjustable,Fixed; Supplier 1: Digi-Key; RoHS: Yes; Category: Voltage Regulators - Switching; Stock 1: 90121; Pricing 1: 1=0/91000, 10=0/81600, 25=0/77400, 100=0/63580, 250=0/59436, 500=0/52526, 1000=0/45640 (USD); Mount: Surface Mount; Case/Package: SO; Number of Pins: 8; Min Operating Temperature: -40°C; Max Operating Temperature: 85°C; Packaging: Tape and Reel; Output Voltage: 1.25V; Output Current: 1.5A; Max Output Current: 1.5A; Max Supply Voltage: 40V; Package Quantity: 1; Min Output Voltage: 1.25V; Series: -; Switching Frequency-Max: 100kHz; Length: 5mm; Width: 4mm; Height: 1.25mm; Radiation Hardening: No; Reach SVHC Compliant: Yes; Lead Free: Lead Free; RoHS Compliant: Yes; ComponentLink1URL: https://datasheet.ciiva.com/7994/1723944-7994091.pdf?src-supplier=Element14; ComponentLink1Description: https://datasheet.ciiva.com/7994/1723944-7994091.pdf?src-supplier=Element14; ComponentLink2URL: https://datasheet.ciiva.com/5820/1723944-5820156.pdf?src-supplier=Farnell; ComponentLink2Description: https://datasheet.ciiva.com/5820/1723944-5820156.pdf?src-supplier=Farnell; ComponentLink3URL: https://datasheet.ciiva.com/7994/1723944-7994103.pdf?src-supplier=Element14; ComponentLink3Description: https://datasheet.ciiva.com/7994/1723944-7994103.pdf?src-supplier=Element14; ComponentLink4URL: https://datasheet.ciiva.com/7994/1723944-7994090.pdf?src-supplier=Element14; ComponentLink4Description: https://datasheet.ciiva.com/7994/1723944-7994090.pdf?src-supplier=Element14; ComponentLink5URL: https://datasheet.ciiva.com/2025/cd00001232-2025159.pdf?src-supplier=Digi-Key; ComponentLink5Description: https://datasheet.ciiva.com/2025/cd00001232-2025159.pdf?src-supplier=Digi-Key; ComponentLink6URL: https://datasheet.ciiva.com/2025/cd00001232-2025158.pdf?src-supplier=Digi-Key; ComponentLink6Description: https://datasheet.ciiva.com/2025/cd00001232-2025158.pdf?src-supplier=Digi-Key; ComponentLink7URL: https://datasheet.ciiva.com/2025/cd00001232-2025160.pdf?src-supplier=Digi-Key; ComponentLink7Description: https://datasheet.ciiva.com/2025/cd00001232-2025160.pdf?src-supplier=Digi-Key; ComponentLink8URL: https://datasheet.ciiva.com/4904/cd00001232-4904856.pdf?src-supplier=Mouser; ComponentLink8Description: https://datasheet.ciiva.com/4904/cd00001232-4904856.pdf?src-supplier=Mouser; ComponentLink9URL: https://datasheet.ciiva.com/16446/cd00001232-16446142.pdf?src-supplier=Future+Electronics; ComponentLink9Description: https://datasheet.ciiva.com/16446/cd00001232-16446142.pdf?src-supplier=Future+Electronics; Supplier Part Number 1: 497-7849-1-ND
footprint SOIC127P600X175-8N (SOIC, 8-Leads, Body 4/89x3/90mm, Pitch 1/27mm, IPC Medium Density)
pins: 1 Switch Collector (hiz), 2 Switch Emitter (hiz), 3 Timing Capacitor (hiz), 4 GND (power), 5 Comparator Inverting Input (hiz), 6 VCC (power), 7 Ipk Sense (hiz), 8 Driver Collector

## MCP601T-E/SN
designator U?, comment IC OPAMP GP 1 CIRCUIT 8SOIC
Ic, operational Amplifier, single, cmos, sop, 8Pin, plastic Rohs Compliant: Yes; Manufacturer: Microchip; Manufacturer Part Number: MCP601T-E/SN; Min Supply Voltage: 2.7V; Max Supply Voltage: 6V; Voltage Gain: 115dB; Unity Gain Bandwidth Product: 2.8MHz; Slew Rate: 2.3V/µs; Common Mode Rejection Ratio: 75dB; Operating Supply Voltage: 5.5V; Number of Channels: 1; Output Current: 22mA; Nominal Supply Current: 230uA; Input Bias Current: 1pA; Input Offset Voltage (Vos): 2mV; Power Supply Rejection Ratio (PSRR): 80dB; Amplifier Type: GENERAL PURPOSE; Supplier 1: Digi-Key; RoHS: Yes; Category: Amplifiers - Op Amps, Buffer, Instrumentation; Stock 1: 3273; Pricing 1: 1=0/63000, 25=0/53000, 100=0/48000 (USD); Mount: Surface Mount; Case/Package: SOIC; Number of Pins: 8; Min Operating Temperature: -40°C; Max Operating Temperature: 125°C; Packaging: Tape and Reel; Package Quantity: 3300; Number of Circuits: 1; Gain Bandwidth Product: 2.8MHz; Operating Supply Current: 230uA; Output Current per Channel: 22mA; Number of Elements: 1; Supply Current: 230uA; Technology: CMOS; Radiation Hardening: No; Lead Free: Lead Free; RoHS Compliant: Yes; ComponentLink1URL: https://datasheet.ciiva.com/1804/21314g-1804873.pdf?src-supplier=Digi-Key; ComponentLink1Description: https://datasheet.ciiva.com/1804/21314g-1804873.pdf?src-supplier=Digi-Key; Supplier Part Number 1: MCP601T-E/SNCT-ND
footprint SOIC127P600X175-8N (SOIC, 8-Leads, Body 4/89x3/90mm, Pitch 1/27mm, IPC Medium Density)
pins: 1 NC, 2 IN- (in), 3 IN+ (in), 4 VSS (power), 5 NC, 6 OUT (out), 7 VDD (power), 8 NC

## MCP2551T-I/SN
designator U?, comment IC TRANSCEIVER HALF 1/1 8SOIC
IC TRANSCEIVER CAN HI-SPD 8-SOIC; Manufacturer: Microchip; Manufacturer Part Number: MCP2551T-I/SN; Data Rate: 1Mbps; Max Supply Voltage: 5.5V; Min Supply Voltage: 4.5V; Operating Supply Voltage: 5V; Nominal Supply Current: 75mA; Number of Transmit Buffers: 1; Interface: CAN,Serial; Supplier 1: Digi-Key; RoHS: Yes; Category: Interface ICs; Stock 1: 70139; Pricing 1: 1=1/37000, 25=1/26000 (USD); Mount: Surface Mount; Case/Package: SOIC; Number of Pins: 8; Min Operating Temperature: -40°C; Max Operating Temperature: 85°C; Packaging: Tape and Reel; Number of Receive Buffers: 1; Package Quantity: 3300; Number of Receivers: 1; Max Supply Current: 75mA; Number of Transceivers: 1; Number of Drivers: 1; Logic Function: Transceiver; Supply Current: 75mA; Number of Functions: 1; Supply Voltage-Nom: 5.5V; Length: 4.9mm; Width: 3.9mm; Height: 1.5mm; Radiation Hardening: No; REACH SVHC: No SVHC; Lead Free: Lead Free; RoHS Compliant: Yes; ComponentLink1URL: https://datasheet.ciiva.com/14152/mcp2551-eng-tds-2-14152541.pdf?src-supplier=Distrelec; ComponentLink1Description: https://datasheet.ciiva.com/14152/mcp2551-eng-tds-2-14152541.pdf?src-supplier=Distrelec; ComponentLink2URL: https://datasheet.ciiva.com/7650/21667f-7650934.pdf?src-supplier=Element14; ComponentLink2Description: https://datasheet.ciiva.com/7650/21667f-7650934.pdf?src-supplier=Element14; ComponentLink3URL: https://datasheet.ciiva.com/46381/657417-46381830.pdf?src-supplier=Element14; ComponentLink3Description: https://datasheet.ciiva.com/46381/657417-46381830.pdf?src-supplier=Element14; ComponentLink4URL: https://datasheet.ciiva.com/16199/filehandler-aspxddocname-en011797-16199501.pdf?src-supplier=Future+Electronics; ComponentLink4Description: https://datasheet.ciiva.com/16199/filehandler-aspxddocname-en011797-16199501.pdf?src-supplier=Future+Electronics; ComponentLink5URL: https://datasheet.ciiva.com/1699/21667f-1699938.pdf?src-supplier=Digi-Key; ComponentLink5Description: https://datasheet.ciiva.com/1699/21667f-1699938.pdf?src-supplier=Digi-Key; Supplier Part Number 1: MCP2551T-I/SNCT-ND
footprint SOIC127P600X175-8N (SOIC, 8-Leads, Body 4/89x3/90mm, Pitch 1/27mm, IPC Medium Density)
pins: 1 TXD, 2 VSS (power), 3 VDD (power), 4 RXD, 5 VREF, 6 CANL, 7 CANH, 8 RS

## MCP41010-I/SN
designator U?, comment IC DGTL POT 10KOHM 256TAP 8SOIC
Digital Potentiometer 10k Ohm 1 Circuit 256 Taps SPI Interface 8-SOIC; Manufacturer: Microchip; Manufacturer Part Number: MCP41010-I/SN; Min Supply Voltage: 2.7V; Max Supply Voltage: 5.5V; Interface: SPI,Serial; Number of Channels: 1; Resistance: 10kR; Nominal Supply Current: 340uA; Tolerance: 20%; Number of Taps: 256; Memory Type: Volatile; Max Supply Current: 1uA; Bandwidth: 1MHz; Resolution: 8b; Temperature Coefficient: 800ppm/°C; Frequency: 10MHz; Quiescent Current: 10nA; Supplier 1: Digi-Key; RoHS: Yes; Category: Digital Potentiometers; Pricing 1: 1=1/91000, 25=1/75520 (USD); Mount: Surface Mount; Case/Package: SOIC; Number of Pins: 8; Contact Plating: Tin,Matte; Min Operating Temperature: -40°C; Max Operating Temperature: 85°C; Packaging: Rail/Tube; Package Quantity: 100; Max Supply Voltage (DC): 5.5V; Min Supply Voltage (DC): 2.7V; Resistor Type: Potentiometer; Taper: Linear; Number of Circuits: 1; Number of Positions: 256; Number of Elements: 1; Supply Current: 340uA; Length: 4.9mm; Width: 3.9mm; Height: 1.25mm; Radiation Hardening: No; REACH SVHC: No SVHC; Lead Free: Lead Free; RoHS Compliant: Yes; ComponentLink1URL: https://datasheet.ciiva.com/1149/12247-1149495.pdf?src-supplier=Farnell; ComponentLink1Description: https://datasheet.ciiva.com/1149/12247-1149495.pdf?src-supplier=Farnell; ComponentLink2URL: https://datasheet.ciiva.com/1146/12247-1146755.pdf?src-supplier=Element14; ComponentLink2Description: https://datasheet.ciiva.com/1146/12247-1146755.pdf?src-supplier=Element14; ComponentLink3URL: https://datasheet.ciiva.com/18403/70045416-18403931.pdf?src-supplier=Allied+Electronics; ComponentLink3Description: https://datasheet.ciiva.com/18403/70045416-18403931.pdf?src-supplier=Allied+Electronics; ComponentLink4URL: https://datasheet.ciiva.com/1146/12247-1146085.pdf?src-supplier=Element14; ComponentLink4Description: https://datasheet.ciiva.com/1146/12247-1146085.pdf?src-supplier=Element14; ComponentLink5URL: https://datasheet.ciiva.com/3045/11195c-3045432.pdf?src-supplier=Avnet; ComponentLink5Description: https://datasheet.ciiva.com/3045/11195c-3045432.pdf?src-supplier=Avnet; ComponentLink6URL: https://datasheet.ciiva.com/15145/getdatasheetpartid-431513-15145831.pdf?src-supplier=Verical; ComponentLink6Description: https://datasheet.ciiva.com/15145/getdatasheetpartid-431513-15145831.pdf?src-supplier=Verical; ComponentLink7URL: https://datasheet.ciiva.com/29305/651474-da-01-en-ic-poti-dig10k-mcp41010-i-sn-soic-8n-mcp-29305029.pdf?src-supplier=Conrad; ComponentLink7Description: https://datasheet.ciiva.com/29305/651474-da-01-en-ic-poti-dig10k-mcp41010-i-sn-soic-8n-mcp-29305029.pdf?src-supplier=Conrad; Supplier Part Number 1: MCP41010-I/SN-ND
footprint SOIC127P600X175-8N (SOIC, 8-Leads, Body 4/89x3/90mm, Pitch 1/27mm, IPC Medium Density)
pins: 1 ~{CS}, 2 SCK, 3 SI, 4 VSS (power), 5 PA0, 6 PW0, 7 PB0, 8 VDD (power)

## MIC33050-SYHL-TR
designator U?, comment IC REG BUCK 3.3V 600MA 12MLF
High Efficiency 600mA Inductor-less Buck Regulator featuring HyperLight Load; Manufacturer: Microchip; Manufacturer Part Number: MIC33050-SYHL-TR; Supplier 1: Digi-Key; RoHS: Yes; Category: Voltage Regulators - Switching; Pricing 1: 1=1/98000, 25=1/65360, 100=1/51500 (USD); ComponentLink1URL: http://components.arrow.com/part/dataview/50766557S8168057N1374?src-supplier=Arrow+Electronics; ComponentLink1Description: http://components.arrow.com/part/dataview/50766557S8168057N1374?src-supplier=Arrow+Electronics; ComponentLink2URL: http://components.arrow.com/part/dataview/0323_00807482?src-supplier=Arrow+Europe; ComponentLink2Description: http://components.arrow.com/part/dataview/0323_00807482?src-supplier=Arrow+Europe; ComponentLink3URL: http://www.mouser.com/ds/2/495/mic33050-278334.pdf?src-supplier=Mouser; ComponentLink3Description: http://www.mouser.com/ds/2/495/mic33050-278334.pdf?src-supplier=Mouser; ComponentLink4URL: http://www.micrel.com/_PDF/mic5316.pdf?src-supplier=Future+Electronics; ComponentLink4Description: http://www.micrel.com/_PDF/mic5316.pdf?src-supplier=Future+Electronics; Supplier Part Number 1: 576-3353-1-ND
footprint PSON50P300X85-12N (PSON, 12-Leads, Body 3/00x3/00mm, Pitch 0/50mm, IPC Medium Density)
pins: 1 VIN, 2 PGND, 3 SW, 4 SW, 5 SW, 6 SW, 7 OUT, 8 OUT, 9 EN, 10 SNS, 11 CFF, 12 AGND, 13 EXP

## MT25QL01GBBB1EW9-0SIT
designator U?, comment Manufacturer Part Number: MT25QL01GBBB1EW9-0SIT  (hidden comment: IC FLASH 1GBIT SPI 133MHZ 8WPDFN)
NOR Flash Serial-SPI 3V/3.3V 1G-bit 1G/512M/256M x 1/2-bit/4-bit 6ns 8-Pin WPDFN EP; Manufacturer: Micron Technology; Density: 1Gb; Operating Supply Voltage: 3V; Interface: SPI,Serial; Page Size: 256B; Max Supply Voltage: 3.6V; Min Supply Voltage: 2.7V; Supplier 1: Digi-Key; RoHS: Yes; Category: Memory; Mount: Surface Mount; Number of Pins: 8; Min Operating Temperature: -40°C; Max Operating Temperature: 85°C; Memory Type: NOR; Access Time: 6ns; RoHS Compliant: Yes; ComponentLink1URL: https://www.micron.com/~/media/documents/products/data-sheet/nor-flash/serial-nor/mt25q/die-rev-b/mt25q_qlkt_l_01g_bbb_0.pdf?src-supplier=Digi-Key; ComponentLink1Description: https://www.micron.com/~/media/documents/products/data-sheet/nor-flash/serial-nor/mt25q/die-rev-b/mt25q_qlkt_l_01g_bbb_0.pdf?src-supplier=Digi-Key; ComponentLink2URL: http://www.micron.com/~/media/documents/products/data-sheet/nor-flash/serial-nor/mt25q/mt25q_qlks_l_01g_bba_0.pdf?src-supplier=Avnet; ComponentLink2Description: http://www.micron.com/~/media/documents/products/data-sheet/nor-flash/serial-nor/mt25q/mt25q_qlks_l_01g_bba_0.pdf?src-supplier=Avnet; Supplier Part Number 1: MT25QL01GBBB1EW9-0SIT-ND
footprint PQFN0P800X600X80_HS-9N (PQFN, 8-Leads, Body 8/00x6/00mm, Pitch 0/00mm/1/27mm, Thermal Pad 3/40x4/30mm, IPC Medium Density)
pins: 1 S# (in), 2 DQ1 (io), 3 W#/DQ2 (io), 4 VSS (power), 5 DQ0 (io), 6 C (in), 7 DQ3/HOLD# (io), 8 VCC (power), 9 Exp.VSS (power)

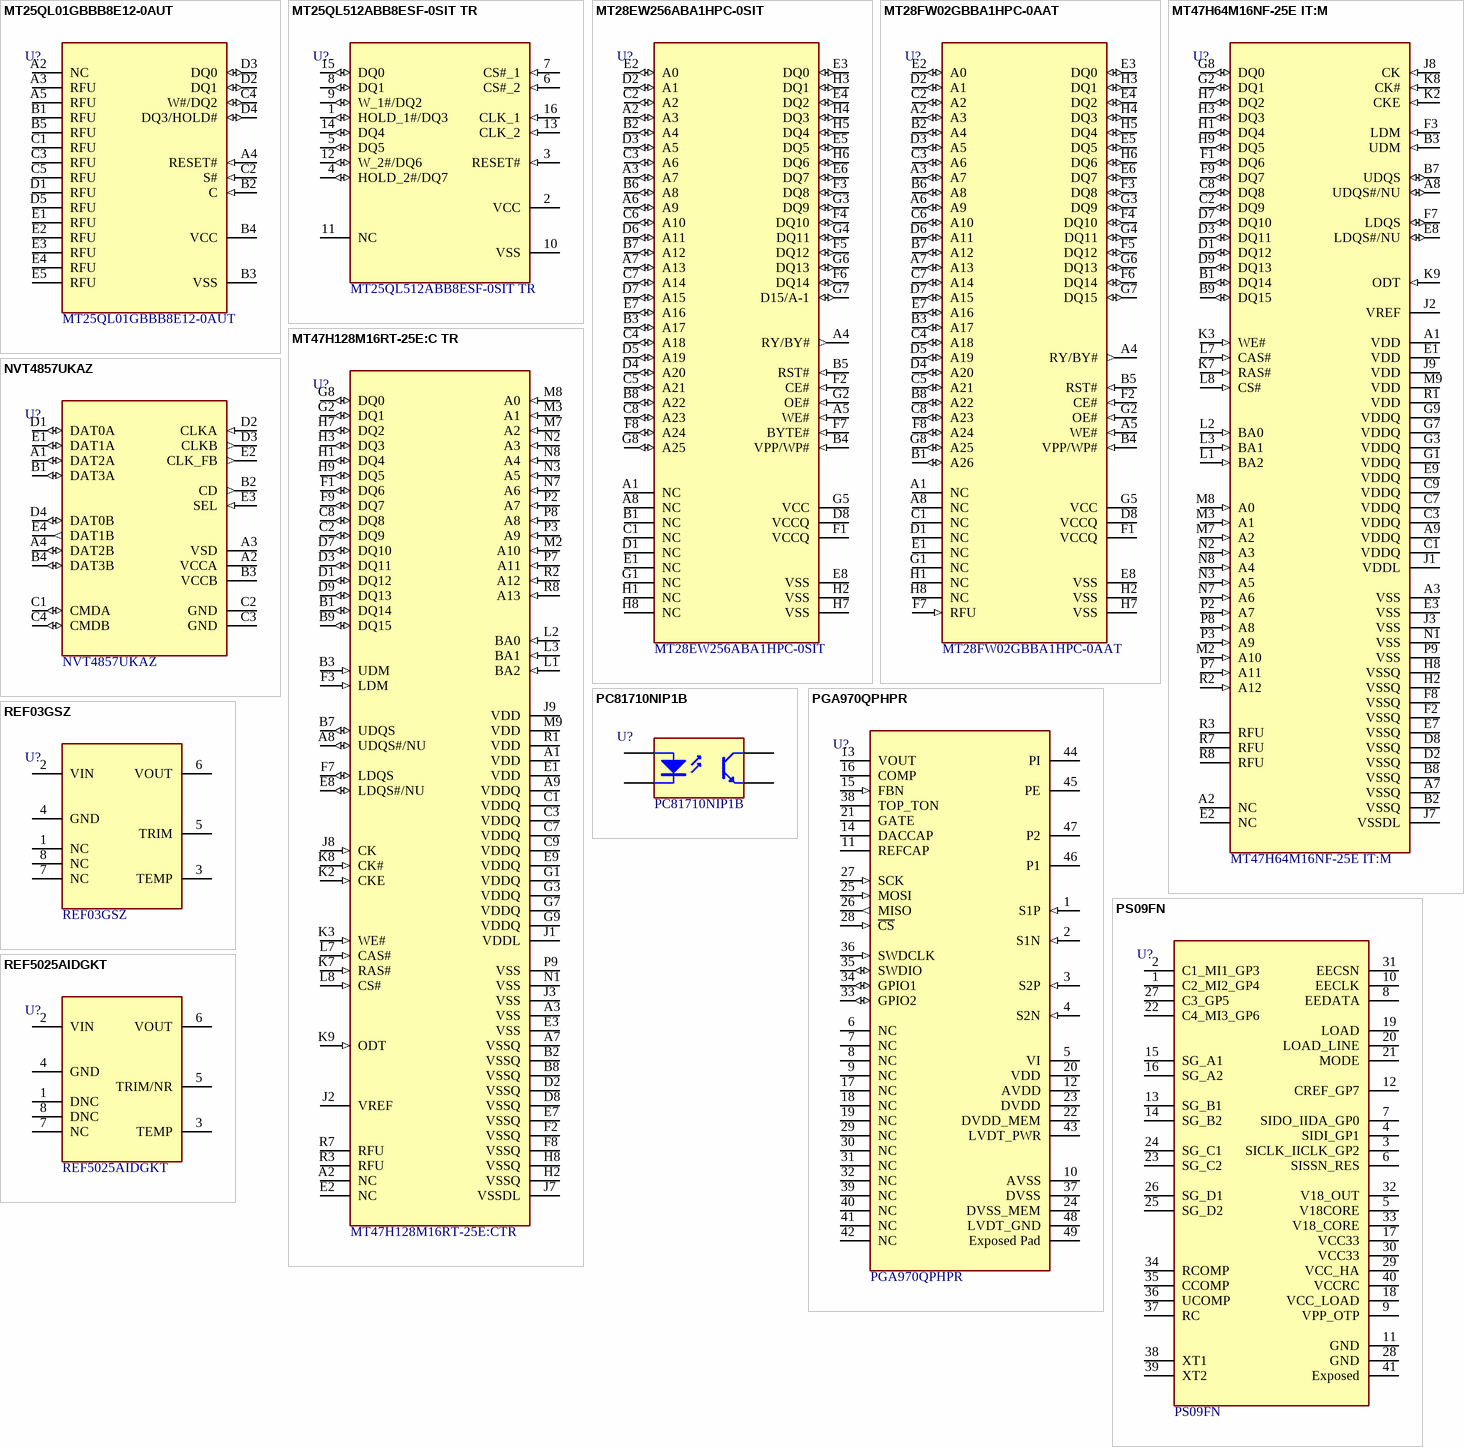
[diagram p3: symbols MT25QL01GBBB8E12-0AUT to REF5025AIDGKT]

## MT25QL01GBBB8E12-0AUT
designator U?, comment Manufacturer Part Number: MT25QL01GBBB8E12-0AUT  (hidden comment: IC FLSH 1GBIT SPI 133MHZ 24TPBGA)
NOR Flash, MT25Q, 1Gb, 2.7V-3.6V, 133 MHz, 24-ball T-PBGA, RoHS; Manufacturer: Micron Technology; Memory Type: Non-Volatile,FLASH; Supplier 1: Digi-Key; RoHS: Yes; Stock 1: 787; Pricing 1: 1=29/52000, 10=27/49000, 25=27/19560, 50=26/52480, 100=23/28480, 250=22/49940 (USD); Mount: Surface Mount; Number of Pins: 24; Min Operating Temperature: -40°C; Max Operating Temperature: 125°C; Memory Size: 1Gb; Frequency: 133MHz; RoHS Compliant: Yes; ComponentLink1URL: https://www.micron.com/~/media/documents/products/data-sheet/nor-flash/serial-nor/mt25q/die-rev-b/mt25q_qlkt_l_01g_bbb_0.pdf?src-supplier=Digi-Key; ComponentLink1Description: https://www.micron.com/~/media/documents/products/data-sheet/nor-flash/serial-nor/mt25q/die-rev-b/mt25q_qlkt_l_01g_bbb_0.pdf?src-supplier=Digi-Key; Supplier Part Number 1: MT25QL01GBBB8E12-0AUT-ND
footprint BGA24C100P5X5_600X800X120 (BGA, 24-Leads, Body 6/00x8/00mmx1/20mm, Pitch 1/00mm)
pins: A2 NC, A3 RFU, A4 RESET# (in), A5 RFU, B1 RFU, B2 C (in), B3 VSS (power), B4 VCC (power), B5 RFU, C1 RFU, C2 S# (in), C3 RFU, C4 W#/DQ2 (io), C5 RFU, D1 RFU, D2 DQ1 (io), D3 DQ0 (io), D4 DQ3/HOLD# (io), D5 RFU, E1 RFU, E2 RFU, E3 RFU, E4 RFU, E5 RFU

## MT25QL512ABB8ESF-0SIT TR
designator U?, comment Manufacturer Part Number: MT25QL512ABB8ESF-0SIT TR  (hidden comment: IC FLASH 512MBIT SPI 16SOP2)
FLASH - NOR Memory IC 512Mb (64M x 8) SPI 133 MHz 16-SOP2; Supplier 1: Mouser; Supplier Part Number 1: 340-278183-REEL
footprint SOP127P1030X265-16N (SOP, 16-Leads, Body 10/30x7/50mm, Pitch 1/27mm, IPC Medium Density)
pins: 1 HOLD_1#/DQ3 (io), 2 VCC (power), 3 RESET# (in), 4 HOLD_2#/DQ7 (io), 5 DQ5 (io), 6 CS#_2 (in), 7 CS#_1 (in), 8 DQ1 (io), 9 W_1#/DQ2 (io), 10 VSS (power), 11 NC, 12 W_2#/DQ6 (io), 13 CLK_2 (in), 14 DQ4 (io), 15 DQ0 (io), 16 CLK_1 (in)

## MT28EW256ABA1HPC-0SIT
designator U?, comment Manufacturer Part Number: MT28EW256ABA1HPC-0SIT  (hidden comment: IC FLASH 256MBIT PARALLEL 64LBGA)
FLASH - NOR Memory IC 256Mb (32M x 8, 16M x 16) Parallel 75 ns 64-LBGA (11x13); Supplier 1: Mouser; Supplier Part Number 1: 340-284307-TRAY
footprint BGA64C100P8X8_1100X1300X140 (BGA, 64-Leads, Body 11/00x13/00mmx1/40mm, Pitch 1/00mm)
pins: A1 NC, A2 A3 (io), A3 A7 (io), A4 RY/BY# (out), A5 WE# (in), A6 A9 (io), A7 A13 (io), A8 NC, B1 NC, B2 A4 (io), B3 A17 (io), B4 VPP/WP# (in), B5 RST# (in), B6 A8 (io), B7 A12 (io), B8 A22 (io), C1 NC, C2 A2 (io), C3 A6 (io), C4 A18 (io), C5 A21 (io), C6 A10 (io), C7 A14 (io), C8 A23 (io), D1 NC, D2 A1 (io), D3 A5 (io), D4 A20 (io), D5 A19 (io), D6 A11 (io), D7 A15 (io), D8 VCCQ (power), E1 NC, E2 A0 (io), E3 DQ0 (io), E4 DQ2 (io), E5 DQ5 (io), E6 DQ7 (io), E7 A16 (io), E8 VSS (power), F1 VCCQ (power), F2 CE# (in), F3 DQ8 (io), F4 DQ10 (io), F5 DQ12 (io), F6 DQ14 (io), F7 BYTE# (in), F8 A24 (io), G1 NC, G2 OE# (in), G3 DQ9 (io), G4 DQ11 (io), G5 VCC (power), G6 DQ13 (io), G7 D15/A-1 (io), G8 A25 (io), H1 NC, H2 VSS (power), H3 DQ1 (io), H4 DQ3 (io), H5 DQ4 (io), H6 DQ6 (io), H7 VSS (power), H8 NC